# Altium footprint library C DIP.PcbLib: 40 footprints (part 3 of 3)
Each footprint in its own frame and in the unit in brackets; x right, y up, seen from the top. Pads: shape width x height; smd on the part's side, far side on the other; paste and mask are expansions set on the pad; w line width, h text height; cw(c..) or ccw(c..) is an arc to the next point about the centre after c.
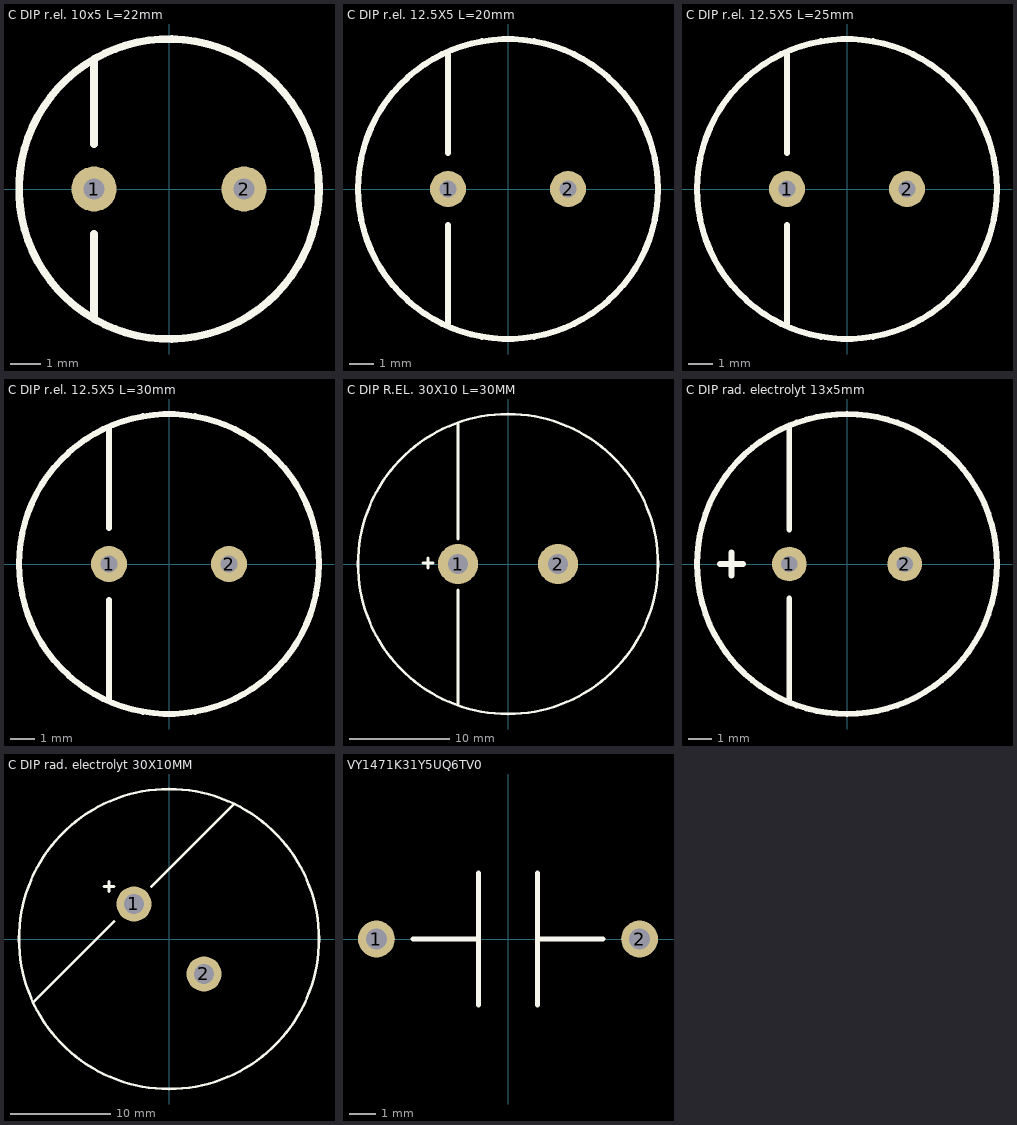
[diagram p2: the footprints below, top view; thin cyan lines are the x and y axes]

## C DIP r.el. 10x5 L=22mm [mm] "C DIP r.el. 10x5 L=22mm"
height 22
pads (2):
  round 1.5 hole 0.7: 1(-2.5,0) 2(2.5,0)
Top Overlay:
  circle w0.254: c0,0 r5
  lines w0.254: -2.5,-4.25 -2.5,-1.5 ; -2.5,1.5 -2.5,4.25
3D body: height 22, standoff 0, extent -5.04,-5.01 4.961,4.99

## C DIP r.el. 12.5X5 L=20mm [mm] "C DIP r.el. 12.5X5 L=20mm"
height 20
pads (2):
  round 1.5 hole 0.7: 1(-2.5,0) 2(2.5,0)
Top Overlay:
  circle w0.254: c0,0 r6.25
  lines w0.254: -2.5,-5.7 -2.5,-1.5 ; -2.5,1.5 -2.5,5.7
3D body: height 20, standoff 0, extent -6.2,-6.2 6.251,6.275

## C DIP r.el. 12.5X5 L=25mm [mm] "C DIP r.el. 12.5X5 L=25mm"
height 25
pads (2):
  round 1.5 hole 0.7: 1(-2.5,0) 2(2.5,0)
Top Overlay:
  circle w0.254: c0,0 r6.25
  lines w0.254: -2.5,-5.7 -2.5,-1.5 ; -2.5,1.5 -2.5,5.7
3D body: height 25, standoff 0, extent -6.2,-6.2 6.251,6.275

## C DIP r.el. 12.5X5 L=30mm [mm] "C DIP r.el. 12.5X5 L=30mm"
height 30
pads (2):
  round 1.5 hole 0.7: 1(-2.5,0) 2(2.5,0)
Top Overlay:
  circle w0.254: c0,0 r6.25
  lines w0.254: -2.5,-5.7 -2.5,-1.5 ; -2.5,1.5 -2.5,5.7
3D body: height 30, standoff 0, extent -6.2,-6.2 6.251,6.275

## C DIP R.EL. 30X10 L=30MM [mm] "C DIP R.EL. 30X10 L=30MM"
height 30
pads (2):
  round 4 hole 2: 1(-5,0) 2(5,0)
Top Overlay:
  circle w0.254: c0,0 r15
  lines w0.254: -8.5,0.1 -7.5,0.1 ; -8,-0.4 -8,0.6 ; -5,-14.1 -5,-2.6 ; -5,2.5 -5,14.1
3D body: height 30, standoff -1, extent -14.985,-14.872 15,15

## C DIP rad. electrolyt 13x5mm [mm] "C DIP rad. electrolyt 13x5mm"
height 21
pads (2):
  round 1.5 hole 0.7: 1(-2.5,0) 2(2.5,0)
Top Overlay:
  circle w0.254: c0,0 r6.5
  lines w0.254: -5.5,0 -4.5,0 ; -5,-0.5 -5,0.5 ; -2.5,-6 -2.5,-1.5 ; -2.5,1.5 -2.5,6
3D body: height 21, standoff 0, extent -6.549,-6.487 6.4,6.487

## C DIP rad. electrolyt 30X10MM [mm] "C DIP rad. electrolyt 30X10MM"
height 30
pads (2):
  round 3.5 hole 2: 1(-3.5,3.5) 2(3.5,-3.5)
Top Overlay:
  circle w0.254: c0,0 r15
  lines w0.254: -13.5,-6.25 -5.5,1.75 ; -6.5,5.25 -5.5,5.25 ; -6,4.75 -6,5.75 ; 6.5,13.5 -1.75,5.25 ; -5.5,1.75 -5.5,1.75 ; -1.75,5.25 -1.75,5.25
3D body: height 31, standoff 1, extent -15,-15 14.882,14.941

## VY1471K31Y5UQ6TV0 [mm]
pads (2):
  round 1.4 hole 0.8: 1(-5,0) 2(5,0)
Top Overlay:
  lines w0.2: -3.6,0 -1.125,0 ; -1.125,-2.5 -1.125,0 ; -1.125,2.5 -1.125,0 ; 1.125,-2.5 1.125,2.5 ; 1.125,0 3.6,0
3D body: height 9, standoff -3.5, extent -5.561,-3.597 5.562,3.597